# Altium schematic symbol library Arduino Nano Every Symbols.SchLib: 57 symbols
Pins are listed as number, name and electrical type; pins without a type are passive.

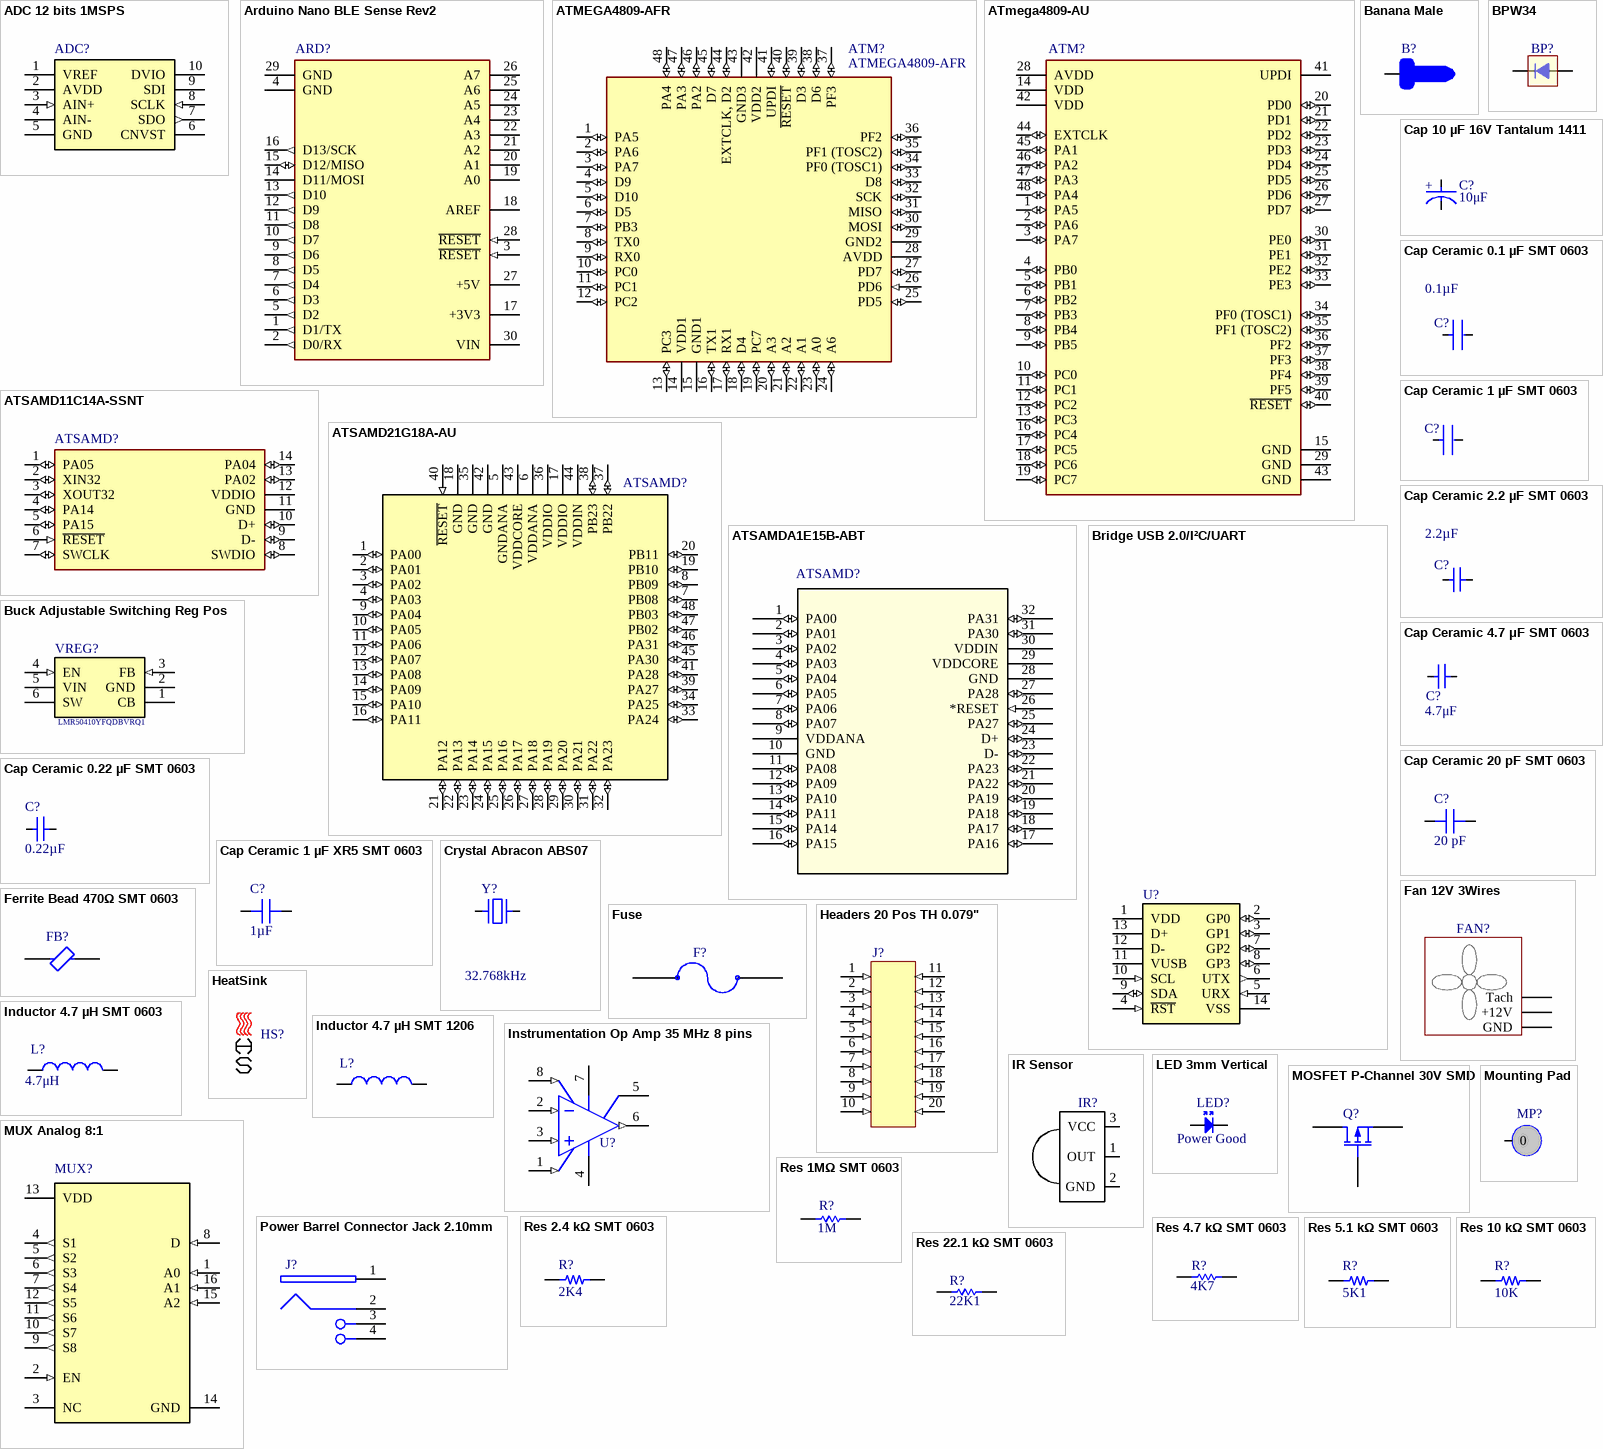
[diagram p0: symbols ADC 12 bits 1MSPS to Res 22.1 kΩ SMT 0603]

## ADC 12 bits 1MSPS
designator ADC?, comment MCP33141-10-E/MS  (value not drawn)
12 Bit Analog to Digital Converter 1 Input 1 SAR 10-MSOP; Supplier 1: Digi-Key; Supplier Part Number 1: MCP33141-10-E/MS-ND
footprint MCP33141-10-E/MS (12 Bit Analog to Digital Converter 1 Input 1 SAR 10-MSOP)
pins: 1 VREF (power), 2 AVDD (power), 3 AIN+ (in), 4 AIN-, 5 GND (power), 6 CNVST, 7 SDO (out), 8 SCLK (in), 9 SDI, 10 DVIO (power)

## Arduino Nano BLE Sense Rev2
designator ARD?
ABX00069, nRF52840 64MHz, 256 KB SRAM, 1MB flash, 14 I/O pins, 8 Analog inputs; Supplier 1: Digi-Key; Supplier Part Number 1: 1050-ABX00069-ND; ComponentLink1Description: Datasheet; ComponentLink1URL: https://docs.arduino.cc/static/65becb67a4b40fb616bb6af2730da4c7/ABX00069-datasheet.pdf; ComponentLink2Description: Pinout; ComponentLink2URL: https://docs.arduino.cc/static/9954a74bd83e85753daa710cb3e36c7d/ABX00069-full-pinout.pdf; ComponentLink3Description: Schematics; ComponentLink3URL: https://docs.arduino.cc/static/e36f3575dfede10661305c9971c3e7ed/ABX00069-schematics.pdf
footprint Arduino Nano BLE Sense Rev2 A (ABX00069, nRF52840 64MHz, 256 KB SRAM, 1MB flash, 14 I/O pins, 8 Analog inputs)
footprint Arduino Nano BLE Sense Rev2 B (ABX00069, nRF52840 64MHz, 256 KB SRAM, 1MB flash, 14 I/O pins, 8 Analog inputs)
pins: 1 D1/TX (out), 2 D0/RX (out), 3 ~{RESET} (in), 4 GND (power), 5 D2 (out), 6 D3 (out), 7 D4 (out), 8 D5 (out), 9 D6 (out), 10 D7 (out), 11 D8 (out), 12 D9 (out), 13 D10 (out), 14 D11/MOSI (hiz), 15 D12/MISO (io), 16 D13/SCK (out), 17 +3V3 (power), 18 AREF, 19 A0 (hiz), 20 A1 (hiz), 21 A2 (hiz), 22 A3 (hiz), 23 A4 (hiz), 24 A5 (hiz), 25 A6 (hiz), 26 A7 (hiz), 27 +5V (power), 28 ~{RESET} (in), 29 GND (power), 30 VIN (power)

## ATMEGA4809-AFR
designator ATM?
MICROCHIP - ATMEGA4809-AFR - MCU, 8BIT, ATMEGA, 20MHZ, TQFP-48; Geometry.Height: 1.2mm; Manufacturer_Name: Microchip; Manufacturer_Part_Number: ATMEGA4809-AFR; Mouser Part Number: 556-ATMEGA4809-AFR; Mouser Price/Stock: https://www.mouser.co.uk/ProductDetail/Microchip-Technology-Atmel/ATMEGA4809-AFR?qs=lYGu3FyN48fyX8GjkvcD6Q%3D%3D; Arrow Part Number: ATMEGA4809-AFR; Arrow Price/Stock: https://www.arrow.com/en/products/atmega4809-afr/microchip-technology?region=nac; Datasheet Link: https://datasheet.datasheetarchive.com/originals/distributors/DKDS41/DSANUWW0026740.pdf; Supplier 1: Digi-Key; Supplier Part Number 1: ATMEGA4809-AFRCT-ND; Supplier 2: Digi-Key; Supplier Part Number 2: ATMEGA4809-AFRDKR-ND
footprint ATmega4809-AF (CQFP, 32-Leads, Body 9,00x9,00mm, Pitch 0,80mm, IPC Medium Density)
pins: 1 PA5 (io), 2 PA6 (io), 3 PA7 (io), 4 D9 (io), 5 D10 (io), 6 D5 (io), 7 PB3 (io), 8 TX0 (io), 9 RX0 (io), 10 PC0 (io), 11 PC1 (io), 12 PC2 (io), 13 PC3 (io), 14 VDD1 (power), 15 GND1 (power), 16 TX1 (io), 17 RX1 (io), 18 D4 (io), 19 PC7 (io), 20 A3 (io), 21 A2 (io), 22 A1 (io), 23 A0 (io), 24 A6 (io), 25 PD5 (io), 26 PD6 (in), 27 PD7 (io), 28 AVDD (power), 29 GND2 (power), 30 MOSI (io), 31 MISO (io), 32 SCK (io), 33 D8 (io), 34 PF0 (TOSC1) (io), 35 PF1 (TOSC2) (io), 36 PF2 (io), 37 PF3 (io), 38 D6 (io), 39 D3 (io), 40 ~{RESET} (io), 41 UPDI (io), 42 VDD2 (power), 43 GND3 (power), 44 EXTCLK, D2 (io), 45 D7 (io), 46 PA2 (io), 47 PA3 (io), 48 PA4 (io)

## ATmega4809-AU
designator ATM?
MICROCHIP - ATMEGA4809-AFR - MCU, 8BIT, ATMEGA, 20MHZ, TQFP-48; Supplier 1: Digi-Key; Supplier Part Number 1: 150-ATMEGA4809-AU-ND; Supplier 2: Digi-Key; Supplier Part Number 2: 150-ATMEGA4809-AURCT-ND; Supplier 3: Digi-Key; Supplier Part Number 3: 150-ATMEGA4809-AURDKR-ND; Supplier 4: Digi-Key; Supplier Part Number 4: 150-ATMEGA4809-AURTR-ND
footprint ATmega4809-AU (MICROCHIP - ATMEGA4809-AFR - MCU, 8BIT, ATMEGA, 20MHZ, TQFP-48)
pins: 1 PA5 (io), 2 PA6 (io), 3 PA7 (io), 4 PB0 (io), 5 PB1 (io), 6 PB2 (io), 7 PB3 (io), 8 PB4 (io), 9 PB5 (io), 10 PC0 (io), 11 PC1 (io), 12 PC2 (io), 13 PC3 (io), 14 VDD (power), 15 GND (oe), 16 PC4 (io), 17 PC5 (io), 18 PC6 (io), 19 PC7 (io), 20 PD0 (io), 21 PD1 (io), 22 PD2 (io), 23 PD3 (io), 24 PD4 (io), 25 PD5 (io), 26 PD6 (io), 27 PD7 (io), 28 AVDD (power), 29 GND (power), 30 PE0 (io), 31 PE1 (io), 32 PE2 (io), 33 PE3 (io), 34 PF0 (TOSC1) (io), 35 PF1 (TOSC2) (io), 36 PF2 (io), 37 PF3 (io), 38 PF4 (io), 39 PF5 (io), 40 ~{RESET} (io), 41 UPDI, 42 VDD (power), 43 GND (power), 44 EXTCLK (io), 45 PA1 (io), 46 PA2 (io), 47 PA3 (io), 48 PA4 (io)

## ATSAMD11C14A-SSNT
designator ATSAMD?
ARM® Cortex®-M0+ SAM D11C Microcontroller IC 32-Bit Single-Core 48MHz 16KB (16K x 8) FLASH 14-SOIC; Supplier 1: Digi-Key; Supplier Part Number 1: ATSAMD11C14A-SSNTCT-ND; Supplier 2: Digi-Key; Supplier Part Number 2: ATSAMD11C14A-SSNTDKR-ND
pins: 1 PA05 (io), 2 XIN32 (io), 3 XOUT32 (io), 4 PA14 (io), 5 PA15 (io), 6 ~{RESET} (in), 7 SWCLK (io), 8 SWDIO (io), 9 D- (io), 10 D+ (io), 11 GND (power), 12 VDDIO (power), 13 PA02 (io), 14 PA04 (io)

## ATSAMD21G18A-AU
designator ATSAMD?
ARM® Cortex®-M0+ SAM D21G, Functional Safety (FuSa) Microcontroller IC 32-Bit Single-Core 48MHz 256KB (256K x 8) FLASH 48-TQFP (7x7); Supplier 1: Digi-Key; Supplier Part Number 1: ATSAMD21G18A-AU-ND; ComponentLink1Description: Datasheet; ComponentLink1URL: https://ww1.microchip.com/downloads/en/DeviceDoc/SAM-D21-DA1-Family-Data-Sheet-DS40001882H.pdf; ComponentLink2Description: Arduino Zero; ComponentLink2URL: https://docs.arduino.cc/hardware/zero
footprint ATSAMD21G18-AU (ARM® Cortex®-M0+ SAM D21G, Functional Safety (FuSa) Microcontroller IC 32-Bit Single-Core 48MHz 256KB (256K x 8) FLASH 48-TQFP (7x7))
pins: 1 PA00 (io), 2 PA01 (io), 3 PA02 (io), 4 PA03 (io), 5 GNDANA (power) "Ground for the analog power domain", 6 VDDANA (power) "Analog supply voltage", 7 PB08 (io), 8 PB09 (io), 9 PA04 (io), 10 PA05 (io), 11 PA06 (io), 12 PA07 (io), 13 PA08 (io), 14 PA09 (io), 15 PA10 (io), 16 PA11 (io), 17 VDDIO (power) "Digital supply voltage", 18 GND (power) "Ground", 19 PB10 (io), 20 PB11 (io), 21 PA12 (io), 22 PA13 (io), 23 PA14 (io), 24 PA15 (io), 25 PA16 (io), 26 PA17 (io), 27 PA18 (io), 28 PA19 (io), 29 PA20 (io), 30 PA21 (io), 31 PA22 (io), 32 PA23 (io), 33 PA24 (io), 34 PA25 (io), 35 GND (power) "Ground", 36 VDDIO (power) "Digital supply voltage", 37 PB22 (io), 38 PB23 (io), 39 PA27 (io), 40 ~{RESET} (in) "Reset pin", 41 PA28 (io), 42 GND (power) "Ground", 43 VDDCORE (power) "Core supply voltage / external decoupling pin", 44 VDDIN (power), 45 PA30 (io), 46 PA31 (io), 47 PB02 (io), 48 PB03 (io)

## ATSAMDA1E15B-ABT
designator ATSAMD?
ARM® Cortex®-M0+ SAM DA1, Functional Safety (FuSa) Microcontroller IC 32-Bit Single-Core 48MHz 32KB (32K x 8) FLASH 32-TQFP (7x7); Supplier 1: Digi-Key; Supplier Part Number 1: ATSAMDA1E15B-ABTCT-ND; Supplier 2: Digi-Key; Supplier Part Number 2: ATSAMDA1E15B-ABTDKR-ND
footprint ATSAMDA1E15B-ABT
pins: 1 PA00 (io), 2 PA01 (io), 3 PA02 (io), 4 PA03 (io), 5 PA04 (io), 6 PA05 (io), 7 PA06 (io), 8 PA07 (io), 9 VDDANA (power), 10 GND (power), 11 PA08 (io), 12 PA09 (io), 13 PA10 (io), 14 PA11 (io), 15 PA14 (io), 16 PA15 (io), 17 PA16 (io), 18 PA17 (io), 19 PA18 (io), 20 PA19 (io), 21 PA22 (io), 22 PA23 (io), 23 D- (io), 24 D+ (io), 25 PA27 (io), 26 *RESET (in), 27 PA28 (io), 28 GND (power), 29 VDDCORE (power), 30 VDDIN (power), 31 PA30 (io), 32 PA31 (io)

## Banana Male
designator B?
footprint Banane Male (Johnson 108-0753-001)
pins: 1

## BPW34
designator BP?
Photodiode
footprint BPW34 (BPW34 Trough Hole)
pins: 1, 2

## Bridge USB 2.0/I²C/UART
designator U?, comment MCP2221A-I/SL  (value not drawn)
USB Bridge, USB to I²C/UART USB 2.0 I²C, UART Interface 14-SOIC; USB Standard: USB 2.0; Max Supply Voltage: 5.5V; Supplier 1: Digi-Key; Supplier Part Number 1: MCP2221A-I/SL-ND
footprint MCP2221A-I/SL (USB Bridge, USB to I²C/UART USB 2.0 I²C, UART Interface 14-SOIC)
pins: 1 VDD (power), 2 GP0 (io), 3 GP1 (io), 4 ~{RST} (in), 5 URX (in), 6 UTX (out), 7 GP2 (io), 8 GP3 (io), 9 SDA (io), 10 SCL (in), 11 VUSB (power), 12 D- (power), 13 D+ (power), 14 VSS (power)
text: /

## Buck Adjustable Switching Reg Pos
designator VREG?, comment LMR50410YFQDBVRQ1
Buck Switching Regulator IC Positive Adjustable 1V 1 Output 1A SOT-23-6; Manufacturer_Name: Texas Instruments; Datasheet Link: https://www.ti.com/product/LMR50410-Q1; Height: 1.45mm; Manufacturer_Part_Number: LMR50410YFQDBVRQ1; Mouser Part Number: 595-MR50410YFQDBVRQ1; Mouser Price/Stock: https://www.mouser.co.uk/ProductDetail/Texas-Instruments/LMR50410YFQDBVRQ1?qs=81r%252BiQLm7BRUAgUFqYZycA%3D%3D; Arrow Part Number: LMR50410YFQDBVRQ1; Arrow Price/Stock: https://www.arrow.com/en/products/lmr50410yfqdbvrq1/texas-instruments?region=nac; Supplier 1: Digi-Key; Supplier Part Number 1: 296-LMR50410YFQDBVRQ1CT-ND; Supplier 2: Digi-Key; Supplier Part Number 2: 296-LMR50410YFQDBVRQ1DKR-ND; Supplier 3: Digi-Key; Supplier Part Number 3: 296-LMR50410YFQDBVRQ1TR-ND
footprint LMR50410YFQDBVRQ1 (Buck Switching Regulator IC Positive Adjustable 1V 1 Output 1A SOT-23-6)
pins: 1 CB (power), 2 GND (power), 3 FB (in), 4 EN (in), 5 VIN (power), 6 SW (power)

## Cap 10 µF 16V Tantalum 1411
designator C?, comment value 10μF  (hidden comment: 293D106X9016B2TE3)
10 µF Molded Tantalum Capacitors 16 V 1411 (3528 Metric) 2Ohm; Voltage Rating: 16V; Case Code (Imperial): 1411; Supplier 1: Digi-Key; Supplier Part Number 1: 718-1124-1-ND; Supplier 2: Digi-Key; Supplier Part Number 2: 718-1124-6-ND; Supplier 3: Digi-Key; Supplier Part Number 3: 718-1124-2-ND
footprint 293D106X9016B2TE3 (10 µF Molded Tantalum Capacitors 16 V 1411 (3528 Metric) 2Ohm)
pins: 1 C, 2 A
text: +

## Cap Ceramic 0.1 µF SMT 0603
designator C?, comment Capacitance: 0.1µF  (hidden comment: CC0603JRX7R9BB104)
0.1 µF ±5% 50V Ceramic Capacitor X7R 0603 (1608 Metric); manufacturer: Yageo; Part Number: CC0603JRX7R9BB104; Applications: General Purpose; componentlink1description: Datasheet; componentlink1url: https://www.yageo.com/upload/media/product/productsearch/datasheet/mlcc/UPY-GPHC_X7R_6.3V-to-50V_18.pdf; componentlink2description: DigiKey Link; componentlink2url: https://www.digikey.com/en/products/detail/yageo/CC0603JRX7R9BB104/5195188; Device Package: 0603 (1608 Metric); lastupdated: 2023-03-06 20:08:09; Lifecycle Status: Active; Minimum Order: 1; Mounting Type: Surface Mount, MLCC; Operating Temperature: -55°C ~ 125°C; Package / Case: 0603 (1608 Metric); packaging: TapeAndReel; partid: 12474; Part Status: Active; price: 0.01; series: CC; Size / Dimension: 0.063" L x 0.031" W (1.60mm x 0.80mm); Temperature Coefficient: X7R; Thickness (Max): 0.035" (0.90mm); Tolerance: ±5%; Voltage - Rated: 50V; Supplier 1: Digi-Key; Supplier Part Number 1: 311-1779-1-ND; Supplier 2: Digi-Key; Supplier Part Number 2: 311-1779-6-ND; Supplier 3: Digi-Key; Supplier Part Number 3: 311-1779-2-ND
footprint CC0603JRX7R9BB104 (0.1 µF ±5% 50V Ceramic Capacitor X7R 0603 (1608 Metric))
pins: 1, 2

## Cap Ceramic 0.22 µF SMT 0603
designator C?, comment value 0.22µF  (hidden comment: GRM188R71E224KA88D)
0.22 µF ±10% 25V Ceramic Capacitor X7R 0603 (1608 Metric); manufacturer: Murata Electronics; Part Number: GRM188R71E224KA88D; Applications: General Purpose; Capacitance: 0.22µF; componentlink1description: Datasheet; componentlink1url: https://www.murata.com/~/media/webrenewal/support/library/catalog/products/capacitor/mlcc/c02e.ashx?la=en-us; componentlink2description: DigiKey Link; componentlink2url: https://www.digikey.com/en/products/detail/murata-electronics/GRM188R71E224KA88D/702554; Device Package: 0603 (1608 Metric); lastupdated: 2023-03-05 20:08:17; Lifecycle Status: Active; Minimum Order: 1; Mounting Type: Surface Mount, MLCC; Operating Temperature: -55°C ~ 125°C; Package / Case: 0603 (1608 Metric); packaging: TapeAndReel; partid: 11196; Part Status: Active; price: 0.01; series: GRM; Size / Dimension: 0.063" L x 0.031" W (1.60mm x 0.80mm); Temperature Coefficient: X7R; Thickness (Max): 0.035" (0.90mm); Tolerance: ±10%; Voltage - Rated: 25V; Supplier 1: Digi-Key; Supplier Part Number 1: 490-3290-1-ND; Supplier 2: Digi-Key; Supplier Part Number 2: 490-3290-6-ND; Supplier 3: Digi-Key; Supplier Part Number 3: 490-3290-2-ND
footprint GRM188R71E224KA88D (0.22 µF ±10% 25V Ceramic Capacitor X7R 0603 (1608 Metric))
pins: 1, 2

## Cap Ceramic 1 µF SMT 0603
designator C?, comment CC0603KPX7R7BB105  (value not drawn)
1 µF ±10% 16V Ceramic Capacitor X7R 0603 (1608 Metric); Value: 1μF; Dielectric: XR7; Tolerance: 10%; Max Operating Temperature: 125°C; Case Code (Imperial): 0603; Voltage Rating (DC): 16V; Resistor Type: Ceramic; Height: 0.8mm; Length: 1.6mm; Construction: Flat; Termination: SMT/SMD; Min Operating Temperature: -55°C; Supplier 1: Digi-Key; Supplier Part Number 1: 13-CC0603KPX7R7BB105CT-ND; Supplier 2: Digi-Key; Supplier Part Number 2: 13-CC0603KPX7R7BB105DKR-ND; Supplier 3: Digi-Key; Supplier Part Number 3: 13-CC0603KPX7R7BB105TR-ND
footprint CC0603KPX7R7BB105 (1 µF ±10% 16V Ceramic Capacitor X7R 0603 (1608 Metric))
pins: 1, 2

## Cap Ceramic 1 µF XR5 SMT 0603
designator C?, comment value 1µF  (hidden comment: CC0603KRX5R7BB105)
1 µF ±10% 16V Ceramic Capacitor X5R 0603 (1608 Metric); manufacturer: Yageo; Capacitance: 1 µF; Part Number: CC0603KRX5R7BB105; Applications: General Purpose; componentlink1description: Datasheet; componentlink1url: https://www.yageo.com/upload/media/product/productsearch/datasheet/mlcc/UPY-GPHC_X5R_4V-to-50V_25.pdf; componentlink2description: DigiKey Link; componentlink2url: https://www.digikey.com/en/products/detail/yageo/CC0603KRX5R7BB105/2833609; Device Package: 0603 (1608 Metric); lastupdated: 2023-03-07 20:08:01; Lifecycle Status: Active; Minimum Order: 1; Mounting Type: Surface Mount, MLCC; Operating Temperature: -55°C ~ 85°C; Package / Case: 0603 (1608 Metric); packaging: TapeAndReel; partid: 12399; Part Status: Active; price: 0.01; series: CC; Size / Dimension: 0.063" L x 0.031" W (1.60mm x 0.80mm); Temperature Coefficient: X5R; Thickness (Max): 0.035" (0.90mm); Tolerance: ±10%; Voltage - Rated: 16V; Supplier 1: Digi-Key; Supplier Part Number 1: 311-1444-1-ND; Supplier 2: Digi-Key; Supplier Part Number 2: 311-1444-6-ND; Supplier 3: Digi-Key; Supplier Part Number 3: 311-1444-2-ND
footprint Cap Ceramic 1 uF XR5 SMT 0603 (1 µF ±10% 16V Ceramic Capacitor X5R 0603 (1608 Metric))
pins: 1, 2

## Cap Ceramic 2.2 µF SMT 0603
designator C?, comment Capacitance: 2.2µF  (hidden comment: CC0603KRX7R5BB225)
2.2 µF ±10% 6.3V Ceramic Capacitor X7R 0603 (1608 Metric); manufacturer: Yageo; Part Number: CC0603KRX7R5BB225; Applications: General Purpose; componentlink1description: Datasheet; componentlink1url: https://www.yageo.com/upload/media/product/productsearch/datasheet/mlcc/UPY-GPHC_X7R_6.3V-to-50V_18.pdf; componentlink2description: DigiKey Link; componentlink2url: https://www.digikey.com/en/products/detail/yageo/CC0603KRX7R5BB225/5195203; Device Package: 0603 (1608 Metric); lastupdated: 2023-03-06 20:08:32; Lifecycle Status: Active; Minimum Order: 1; Mounting Type: Surface Mount, MLCC; Operating Temperature: -55°C ~ 125°C; Package / Case: 0603 (1608 Metric); packaging: TapeAndReel; partid: 41539; Part Status: Active; price: 0.01; series: CC; Size / Dimension: 0.063" L x 0.031" W (1.60mm x 0.80mm); Temperature Coefficient: X7R; Thickness (Max): 0.035" (0.90mm); Tolerance: ±10%; Voltage - Rated: 6.3V; ComponentLink1Description: Datasheet; ComponentLink1URL: *; Supplier 1: Digi-Key; Supplier Part Number 1: 311-1795-1-ND; Supplier 2: Digi-Key; Supplier Part Number 2: 311-1795-6-ND; Supplier 3: Digi-Key; Supplier Part Number 3: 311-1795-2-ND
footprint CC0603KRX7R5BB225 (2.2 µF ±10% 6.3V Ceramic Capacitor X7R 0603 (1608 Metric))
pins: 1, 2

## Cap Ceramic 4.7 μF SMT 0603
designator C?, comment Capacitance: 4.7μF  (hidden comment: CC0603KRX5R7BB475)
4.7 µF ±10% 16V Ceramic Capacitor X5R 0603 (1608 Metric); manufacturer: Yageo; Part Number: CC0603KRX5R7BB475; Applications: General Purpose; componentlink1description: Datasheet; componentlink1url: https://www.yageo.com/upload/media/product/productsearch/datasheet/mlcc/UPY-GPHC_X5R_4V-to-50V_25.pdf; componentlink2description: DigiKey Link; componentlink2url: https://www.digikey.com/en/products/detail/yageo/CC0603KRX5R7BB475/5195193; Device Package: 0603 (1608 Metric); lastupdated: 2023-03-06 20:07:35; Lifecycle Status: Active; Minimum Order: 1; Mounting Type: Surface Mount, MLCC; Operating Temperature: -55°C ~ 85°C; Package / Case: 0603 (1608 Metric); packaging: TapeAndReel; partid: 46011; Part Status: Active; price: 0.02; series: CC; Size / Dimension: 0.063" L x 0.031" W (1.60mm x 0.80mm); Temperature Coefficient: X5R; Thickness (Max): 0.037" (0.95mm); Tolerance: ±10%; Voltage - Rated: 16V; Supplier 1: Digi-Key; Supplier Part Number 1: 311-1785-1-ND; Supplier 2: Digi-Key; Supplier Part Number 2: 311-1785-6-ND; Supplier 3: Digi-Key; Supplier Part Number 3: 311-1785-2-ND
footprint Cap Ceramic 4.7 uF SMT 0603 (4.7 µF ±10% 16V Ceramic Capacitor X5R 0603 (1608 Metric))
pins: 1, 2

## Cap Ceramic 20 pF SMT 0603
designator C?, comment value 20 pF  (hidden comment: CC0603JRNPO9BN200)
20 pF ±5% 50V Ceramic Capacitor C0G, NP0 0603 (1608 Metric); manufacturer: Yageo; Part Number: CC0603JRNPO9BN200; Applications: General Purpose; Capacitance: 20 pF; componentlink1description: Datasheet; componentlink1url: https://www.yageo.com/upload/media/product/productsearch/datasheet/mlcc/UPY-GP_NP0_16V-to-50V_17.pdf; componentlink2description: DigiKey Link; componentlink2url: https://www.digikey.com/en/products/detail/yageo/CC0603JRNPO9BN200/2833589; Device Package: 0603 (1608 Metric); lastupdated: 2023-03-06 20:07:50; Lifecycle Status: Active; Minimum Order: 1; Mounting Type: Surface Mount, MLCC; Operating Temperature: -55°C ~ 125°C; Package / Case: 0603 (1608 Metric); packaging: TapeAndReel; partid: 16728; Part Status: Active; price: 0.01; series: CC; Size / Dimension: 0.063" L x 0.031" W (1.60mm x 0.80mm); Temperature Coefficient: C0G, NP0; Thickness (Max): 0.035" (0.90mm); Tolerance: ±5%; Voltage - Rated: 50V; Supplier 1: Digi-Key; Supplier Part Number 1: 311-1424-1-ND; Supplier 2: Digi-Key; Supplier Part Number 2: 311-1424-6-ND; Supplier 3: Digi-Key; Supplier Part Number 3: 311-1424-2-ND
footprint Capacitor 20 pF SMT 0603
pins: 1, 2

## Crystal Abracon ABS07
designator Y?, comment value 32.768kHz  (hidden comment: ABS07-120-32.768KHZ-T)
32.768 kHz ±20ppm Crystal 6pF 55 kOhms 2-SMD, No Lead; Manufacturer: Abracon LLC; Operating Mode: Fundamental; Part Number: ABS07-120-32.768KHZ-T; ComponentLink1Description: Datasheet; ComponentLink1URL: https://abracon.com/Resonators/ABS07-120-32.768kHz-T.pdf; ComponentLink2Description: DigiKey Link; ComponentLink2URL: https://www.digikey.com/en/products/detail/abracon-llc/ABS07-120-32-768KHZ-T/3724043; ESR (Equivalent Series Resistance): 55 kOhms; Frequency Tolerance: ±20ppm; Height - Seated (Max): 0.035" (0.90mm); LastUpdated: 2023-03-06 20:57:22; Lifecycle Status: Active; Load Capacitance: 6pF; Minimum Order: 1; Mounting Type: Surface Mount; Operating Temperature: -40°C ~ 85°C; Package / Case: 2-SMD, No Lead; Packaging: TapeAndReel; PartId: 385; Part Status: Active; Price: 0.44; Series: ABS07; Size / Dimension: 0.126" L x 0.059" W (3.20mm x 1.50mm); Type: kHz Crystal (Tuning Fork); Supplier 1: Digi-Key; Supplier Part Number 1: 535-11937-1-ND; Supplier 2: Digi-Key; Supplier Part Number 2: 535-11937-6-ND; Supplier 3: Digi-Key; Supplier Part Number 3: 535-11937-2-ND; Frequency: 32.768 kHz
footprint ABS07-120-32.768KHZ-T A (32.768 kHz ±20ppm Crystal 6pF 55 kOhms 2-SMD, No Lead)
footprint ABS07-120-32.768KHZ-T B (32.768 kHz ±20ppm Crystal 6pF 55 kOhms 2-SMD, No Lead)
pins: 1, 2

## Fan 12V 3Wires
designator FAN?  (value not drawn)
footprint FAN 12V 3 WIRES + HS
pins: 1 GND (power), 2 +12V (power), 3 Tach

## Ferrite Bead 470Ω SMT 0603
designator FB?, comment BLM18PG471SN1D  (value not drawn)
470 Ω @ 100 MHz 1 Power Line Ferrite Bead 0603 (1608 Metric) 1A 200mOhm; Manufacturer: Murata Electronics; Impedance @ Frequency: 470 Ohms @ 100 MHz; Number of Lines: 1; Part Number: BLM18PG471SN1D; ComponentLink1Description: Datasheet; ComponentLink1URL: https://www.murata.com/en-us/products/productdata/8796738650142/ENFA0003.pdf; ComponentLink2Description: DigiKey Link; ComponentLink2URL: https://www.digikey.com/en/products/detail/murata-electronics/BLM18PG471SN1D/1948328; Current Rating (Max): 1A; DC Resistance (DCR) (Max): 200mOhm; Device Package: 0603 (1608 Metric); Filter Type: Power Line; Height (Max): 0.037" (0.95mm); LastUpdated: 2023-03-06 20:49:55; Lifecycle Status: Active; Minimum Order: 1; Mounting Type: Surface Mount; Operating Temperature: -55°C ~ 125°C; Package / Case: 0603 (1608 Metric); Packaging: TapeAndReel; PartId: 856; Part Status: Active; Price: 0.02; Series: EMIFIL®, BLM18; Size / Dimension: 0.063" L x 0.032" W (1.60mm x 0.80mm); Value: 470 Ω @ 100 MHz; Supplier 1: Digi-Key; Supplier Part Number 1: 490-5223-1-ND; Supplier 2: Digi-Key; Supplier Part Number 2: 490-5223-6-ND; Supplier 3: Digi-Key; Supplier Part Number 3: 490-5223-2-ND
footprint Ferrite Bead 470R SMT 0603 (470 Ohms @ 100 MHz 1 Power Line Ferrite Bead 0603 (1608 Metric) 1A 200mOhm)
pins: 1, 2

## Fuse
designator F?
Fuse
footprint Fuse Holder 3mm
pins: 1, 2

## Headers 20 Pos TH 0.079"
designator J?, comment BF050-20-A-B-0600-0300-L-G  (value not drawn)
Connector Header Through Hole 20 position 0.079" (2.00mm); Supplier 1: Digi-Key; Supplier Part Number 1: 2073-BF050-20-A-B-0600-0300-L-G-ND
footprint Headers 20 Pos TH 0.079" A (Connector Header Through Hole 20 position 0.079" (2.00mm))
footprint Headers 20 Pos TH 0.079" B (Connector Header Through Hole 20 position 0.079" (2.00mm))
pins: 1 (in), 2 (in), 3 (in), 4 (in), 5 (in), 6 (in), 7 (in), 8 (in), 9 (in), 10 (in), 11 (in), 12 (in), 13 (in), 14 (in), 15 (in), 16 (in), 17 (in), 18 (in), 19 (in), 20 (in)

## HeatSink
designator HS?  (value not drawn)
footprint FAN 12V 3 WIRES + HS
footprint HeatSink V8511W Assmann

## Inductor 4.7 µH SMT 0603
designator L?, comment value 4.7μH  (hidden comment: ILSB0603ER4R7K)
4.7 µH Shielded Multilayer Inductor 15 mA 2.1Ohm Max 0603 (1608 Metric); Tolerance: 10%; Core Material: Ferrite; Self Resonant Frequency: 41MHz; Case Code (Imperial): 1206; Min Operating Temperature: -55°C; Max Operating Temperature: 125°C; Width: 1.6mm; Depth: 1.8mm; Weight: 0.000353oz; ComponentLink1Description: Datasheet; ComponentLink1URL: https://www.vishay.com/docs/34029/ilsb1206.pdf; Supplier 1: Digi-Key; Supplier Part Number 1: 541-4369-1-ND; Supplier 2: Digi-Key; Supplier Part Number 2: 541-4369-6-ND
footprint Inductor 4.7 uH SMT 0603 (4.7 µH Shielded Multilayer Inductor 15 mA 2.1Ohm Max 0603 (1608 Metric))
pins: 1, 2

## Inductor 4.7 µH SMT 1206
designator L?, comment ILSB1206ER4R7K  (value not drawn)
4.7 µH Shielded Multilayer Inductor 50 mA 900mOhm Max 1206 (3216 Metric); Value: 4.7μH; Tolerance: 10%; Core Material: Ferrite; Self Resonant Frequency: 41MHz; Supplier 1: Digi-Key; Supplier Part Number 1: 541-4372-1-ND; Supplier 2: Digi-Key; Supplier Part Number 2: 541-4372-6-ND; Supplier 3: Digi-Key; Supplier Part Number 3: 541-4372-2-ND; Case Code (Imperial): 1206; Min Operating Temperature: -55°C; Max Operating Temperature: 125°C; Width: 1.6mm; Depth: 1.8mm; Weight: 0.000353oz; ComponentLink1Description: Datasheet; ComponentLink1URL: https://www.vishay.com/docs/34029/ilsb1206.pdf
footprint ILSB1206ER4R7K (4.7 µH Shielded Multilayer Inductor 50 mA 900mOhm Max 1206 (3216 Metric))
pins: 1, 2

## Instrumentation Op Amp 35 MHz 8 pins
designator U?, comment MCP6N11-100E/SN  (value not drawn)
Instrumentation Amplifier 1 Circuit Rail-to-Rail 8-SOIC; Supplier 1: Digi-Key; Supplier Part Number 1: MCP6N11-100E/SN-ND
footprint MCP6N11-100E/SN (Instrumentation Amplifier 1 Circuit Rail-to-Rail 8-SOIC)
pins: 1 VFG (in), 2 VIM (in), 3 VIP (in), 4 VSS (power), 5 VREF (power), 6 VOUT (out), 7 VDD (power), 8 EN/~{CAL} (in)

## IR Sensor
designator IR?, comment TSOP34338  (value not drawn)
IR Sensor
footprint TSOP (IR Sensor)
pins: 1 OUT, 2 GND, 3 VCC

## LED 3mm Vertical
designator LED?, comment Power Good
LED 3mm
footprint LED 3mm Vertical
pins: 1 A, 2 K

## MOSFET P-Channel 30V SMD
designator Q?, comment IRLML9303TRPBF  (value not drawn)
P-Channel 30 V 2.3A (Ta) 1.25W (Ta) Surface Mount Micro3™/SOT-23; Manufacturer: Infineon Technologies; Drain to Source Voltage (Vdss): 30 V; Drive Voltage (Max Rds On,  Min Rds On): 4.5V, 10V; Gate Charge (Qg) (Max) @ Vgs: 2 nC @ 4.5 V; Input Capacitance (Ciss) (Max) @ Vds: 160 pF @ 25 V; Rds On (Max) @ Id, Vgs: 165mOhm @ 2.3A, 10V; Vgs (Max): ±20V; Vgs(th) (Max) @ Id: 2.4V @ 10µA; Part Number: IRLML9303TRPBF; ComponentLink1Description: Datasheet; ComponentLink1URL: https://www.infineon.com/dgdl/irlml9303pbf.pdf?fileId=5546d462533600a401535668ef1d2642; ComponentLink2Description: DigiKey Link; ComponentLink2URL: https://www.digikey.com/en/products/detail/infineon-technologies/IRLML9303TRPBF/2354147; Current - Continuous Drain (Id) @ 25°C: 2.3A (Ta); FET Type: P-Channel; LastUpdated: 2023-03-05 21:05:43; Lifecycle Status: Active; Minimum Order: 1; Mounting Type: Surface Mount; Operating Temperature: -55°C ~ 150°C (TJ); Package / Case: TO-236-3, SC-59, SOT-23-3; Packaging: TapeAndReel; Part Status: Active; Power Dissipation (Max): 1.25W (Ta); Price: 0.11; Series: HEXFET®; Supplier Device Package: Micro3™/SOT-23; Technology: MOSFET (Metal Oxide); Supplier 1: Digi-Key; Supplier Part Number 1: IRLML9303TRPBFCT-ND; Supplier 2: Digi-Key; Supplier Part Number 2: IRLML9303TRPBFDKR-ND; Supplier 3: Digi-Key; Supplier Part Number 3: IRLML9303TRPBFTR-ND
footprint IRLML9303TRPBF (P-Channel 30 V 2.3A (Ta) 1.25W (Ta) Surface Mount Micro3™/SOT-23)
pins: 1 D, 2 G, 3 S

## Mounting Pad
designator MP?  (value not drawn)
footprint Mounting Hole
footprint Poteau Keystone 9082
pins: 0

## MUX Analog 8:1
designator MUX?, comment TMUX1208PWR  (value not drawn)
5-V, 8: 1, 1-channel general-purpose analog multiplexer with 1.8-V input logic 16-TSSOP -40 to 125; Supplier 1: Digi-Key; Supplier Part Number 1: 296-51847-1-ND; Supplier 2: Digi-Key; Supplier Part Number 2: 296-51847-6-ND; Supplier 3: Digi-Key; Supplier Part Number 3: 296-51847-2-ND; ComponentLink1Description: Datasheet; ComponentLink1URL: https://www.ti.com/lit/ds/symlink/tmux1208.pdf?HQS=dis-dk-null-digikeymode-dsf-pf-null-wwe&ts=1678139087624&ref_url=https%253A%252F%252Fwww.ti.com%252Fgeneral%252Fdocs%252Fsuppproductinfo.tsp%253FdistId%253D10%2526gotoUrl%253Dhttps%253A%252F%252Fwww.ti.com%252Flit%252Fgpn%252Ftmux1208
footprint TMUX1208PWR (1 Circuit IC Switch 8:1 3Ohm (Typ) 16-TSSOP)
pins: 1 A0 (in), 2 EN (in), 3 NC (hiz), 4 S1 (out), 5 S2 (out), 6 S3 (out), 7 S4 (out), 8 D (in), 9 S8 (out), 10 S7 (out), 11 S6 (out), 12 S5 (out), 13 VDD (power), 14 GND (power), 15 A2 (in), 16 A1 (in)

## Power Barrel Connector Jack 2.10mm
designator J?, comment PJ-063AH  (value not drawn)
Power Barrel Connector Jack 2.10mm ID (0.083"), 5.50mm OD (0.217") Through Hole, Right Angle; Current Rating: 8A; Shielding: Shielded; Voltage Rating: 24V; Insulation Resistance: 100MR; Number of Conductors: 2; Supplier 1: Digi-Key; Supplier Part Number 1: CP-063AH-ND; ComponentLink1Description: Datasheet; ComponentLink1URL: https://www.cuidevices.com/product/resource/pj-063ah.pdf; Max Operating Temperature: 85°C; Min Operating Temperature: -25°C; Contact Material: Copper; Contact Plating: Nickel; Flammability Rating: UL94 V-0
footprint PJ-063AH (Power Barrel Connector Jack 2.10mm ID (0.083"), 5.50mm OD (0.217") Through Hole, Right Angle)
pins: 1, 2, 3 SHLD, 4 SHLD

## Res 1MΩ SMT 0603
designator R?  Resistance: 1M
1 MΩ ±1% 0.1W, 1/10W Chip Resistor 0603 (1608 Metric) Automotive AEC-Q200, Moisture Resistant Thick Film; Part Number: AC0603FR-071ML; Manufacturer: Yageo; Temperature Coefficient: ±100ppm/°C; ComponentLink1Description: Datasheet; ComponentLink1URL: https://www.yageo.com/upload/media/product/productsearch/datasheet/rchip/PYu-AC_51_RoHS_L_7.pdf; ComponentLink2Description: DigiKey Link; ComponentLink2URL: https://www.digikey.com/en/products/detail/yageo/AC0603FR-071ML/2827820; Composition: Thick Film; Device Package: 0603 (1608 Metric); Features: Automotive AEC-Q200, Moisture Resistant; Height - Seated (Max): 0.022" (0.55mm); LastUpdated: 2023-03-06 20:28:19; Lifecycle Status: Active; Minimum Order: 1; Number of Terminations: 2; Operating Temperature: -55°C ~ 155°C; Package / Case: 0603 (1608 Metric); Packaging: CutTape; PartId: 17362; Part Status: Active; Power (Watts): 0.1W, 1/10W; Price: 0.01; Ratings: AEC-Q200; Series: AC; Size / Dimension: 0.063" L x 0.031" W (1.60mm x 0.80mm); Supplier Device Package: 0603; Tolerance: ±1%; Supplier 1: Digi-Key; Supplier Part Number 1: 311-1MLDCT-ND; Supplier 2: Digi-Key; Supplier Part Number 2: 311-1MLDDKR-ND; Supplier 3: Digi-Key; Supplier Part Number 3: 311-1MLDTR-ND
footprint AC0603FR-071ML (1 MOhms ±1% 0.1W, 1/10W Chip Resistor 0603 (1608 Metric) Automotive AEC-Q200, Moisture Resistant Thick Film)
pins: 1, 2

## Res 2.4 kΩ SMT 0603
designator R?, comment value 2K4  (hidden comment: AC0603FR-072K4L)
2.4 kOhms ±1% 0.1W, 1/10W Chip Resistor 0603 (1608 Metric) Automotive AEC-Q200, Moisture Resistant Thick Film; Manufacturer: Yageo; Temperature Coefficient: ±100ppm/°C; Part Number: AC0603FR-072K4L; ComponentLink1Description: Datasheet; ComponentLink1URL: https://www.yageo.com/upload/media/product/productsearch/datasheet/rchip/PYu-AC_51_RoHS_L_7.pdf; ComponentLink2Description: DigiKey Link; ComponentLink2URL: https://www.digikey.com/en/products/detail/yageo/AC0603FR-072K4L/5895989; Composition: Thick Film; Device Package: 0603 (1608 Metric); Features: Automotive AEC-Q200, Moisture Resistant; Height - Seated (Max): 0.022" (0.55mm); LastUpdated: 2023-03-07 20:28:01; Lifecycle Status: Active; Minimum Order: 1; Number of Terminations: 2; Operating Temperature: -55°C ~ 155°C; Package / Case: 0603 (1608 Metric); Packaging: CutTape; PartId: 22004; Part Status: Active; Power (Watts): 0.1W, 1/10W; Price: 0.01; Ratings: AEC-Q200; Resistance: 2K4; Series: AC; Size / Dimension: 0.063" L x 0.031" W (1.60mm x 0.80mm); Supplier Device Package: 0603; Tolerance: ±1%; Supplier 1: Digi-Key; Supplier Part Number 1: YAG5724CT-ND; Supplier 2: Digi-Key; Supplier Part Number 2: YAG5724DKR-ND; Supplier 3: Digi-Key; Supplier Part Number 3: YAG5724TR-ND
footprint Res 2K4 SMT 0603 (2.4 kOhms ±1% 0.1W, 1/10W Chip Resistor 0603 (1608 Metric) Automotive AEC-Q200, Moisture Resistant Thick Film)
pins: 1, 2

## Res 4.7 kΩ SMT 0603
designator R?, comment Resistance: 4K7  (hidden comment: AC0603FR-074K7L)
4.7 kΩ ±1% 0.1W, 1/10W Chip Resistor 0603 (1608 Metric) Automotive AEC-Q200, Moisture Resistant Thick Film; Temperature Coefficient: 100ppm/°C; Max Power Dissipation: 100mW; Voltage Rating: 50V; Min Operating Temperature: -55°C; Width: 0.031inch; Features: Moisture Resistant; Case/Package: 0603; Number of Terminations: 2; Height: 0.022inch; Case Code (Imperial): 0603; Construction: Rectangular; Length: 0.063inch; Termination: SMD/SMT; Tolerance: 1%; Military Standard: Not; Case Code (Metric): 1608; Lead Free: Lead Free; Depth: 0.8mm; Max Operating Temperature: 155°C; Size Code: 0603; RoHS Compliant: Yes; Series: AC; Resistor Type: Thick Film; Ratings: AEC-Q200; Packaging: Tape and Reel; Power Rating: 100mW
footprint AC0603FR-074K7L (RES 4.7KO 1.00% 0.1W 0603)
pins: 1, 2

## Res 5.1 kΩ SMT 0603
designator R?, comment value 5K1  (hidden comment: AC0603FR-075K1L)
5.1 kOhms ±1% 0.1W, 1/10W Chip Resistor 0603 (1608 Metric) Automotive AEC-Q200, Moisture Resistant Thick Film; Manufacturer: Yageo; Temperature Coefficient: ±100ppm/°C; Part Number: AC0603FR-075K1L; ComponentLink1Description: Datasheet; ComponentLink1URL: https://www.yageo.com/upload/media/product/productsearch/datasheet/rchip/PYu-AC_51_RoHS_L_7.pdf; ComponentLink2Description: DigiKey Link; ComponentLink2URL: https://www.digikey.com/en/products/detail/yageo/AC0603FR-075K1L/5896209; Composition: Thick Film; Device Package: 0603 (1608 Metric); Features: Automotive AEC-Q200, Moisture Resistant; Height - Seated (Max): 0.022" (0.55mm); LastUpdated: 2023-03-07 20:28:19; Lifecycle Status: Active; Minimum Order: 1; Number of Terminations: 2; Operating Temperature: -55°C ~ 155°C; Package / Case: 0603 (1608 Metric); Packaging: CutTape; PartId: 17442; Part Status: Active; Power (Watts): 0.1W, 1/10W; Price: 0.01; Ratings: AEC-Q200; Resistance: 5K1; Series: AC; Size / Dimension: 0.063" L x 0.031" W (1.60mm x 0.80mm); Supplier Device Package: 0603; Tolerance: ±1%; Supplier 1: Digi-Key; Supplier Part Number 1: YAG3621CT-ND; Supplier 2: Digi-Key; Supplier Part Number 2: YAG3621DKR-ND; Supplier 3: Digi-Key; Supplier Part Number 3: YAG3621TR-ND
footprint Res 5K1 SMT 0603 (5.1 kOhms ±1% 0.1W, 1/10W Chip Resistor 0603 (1608 Metric) Automotive AEC-Q200, Moisture Resistant Thick Film)
pins: 1, 2

## Res 10 kΩ SMT 0603
designator R?, comment value 10K  (hidden comment: RT0603BRD0710KL)
10 kΩ  ±0.1% 0.1W, 1/10W Chip Resistor 0603 (1608 Metric) Thin Film; Manufacturer: Yageo; Temperature Coefficient: ±25ppm/°C; Part Number: RT0603BRD0710KL; ComponentLink1Description: Datasheet; ComponentLink1URL: https://www.yageo.com/upload/media/product/productsearch/datasheet/rchip/PYu-RT_1-to-0.01_RoHS_L_11.pdf; ComponentLink2Description: DigiKey Link; ComponentLink2URL: https://www.digikey.com/en/products/detail/yageo/RT0603BRD0710KL/1072198; Composition: Thin Film; Device Package: 0603 (1608 Metric); Height - Seated (Max): 0.022" (0.55mm); LastUpdated: 2023-03-06 20:27:57; Lifecycle Status: Active; Minimum Order: 1; Number of Terminations: 2; Operating Temperature: -55°C ~ 155°C; Package / Case: 0603 (1608 Metric); Packaging: TapeAndReel; PartId: 22611; Part Status: Active; Power (Watts): 0.1W, 1/10W; Price: 0.03; Resistance: 10K; Series: RT; Size / Dimension: 0.063" L x 0.031" W (1.60mm x 0.80mm); Supplier Device Package: 0603; Tolerance: ±0.1%; Supplier 1: Digi-Key; Supplier Part Number 1: YAG1236CT-ND; Supplier 2: Digi-Key; Supplier Part Number 2: YAG1236DKR-ND; Supplier 3: Digi-Key; Supplier Part Number 3: YAG1236TR-ND
footprint RT0603BRD0710KL (10 kOhms ±0.1% 0.1W, 1/10W Chip Resistor 0603 (1608 Metric) Thin Film)
pins: 1, 2

## Res 22.1 kΩ SMT 0603
designator R?, comment Resistance: 22K1  (hidden comment: CRCW060322K1FKEA)
22.1 kΩ ±1% 0.1W, 1/10W Chip Resistor 0603 (1608 Metric) Automotive AEC-Q200 Thick Film; Manufacturer: Vishay Dale; Temperature Coefficient: ±100ppm/°C; Part Number: CRCW060322K1FKEA; ComponentLink1Description: Datasheet; ComponentLink1URL: http://www.vishay.com/docs/20035/dcrcwe3.pdf; ComponentLink2Description: DigiKey Link; ComponentLink2URL: https://www.digikey.com/en/products/detail/vishay-dale/CRCW060322K1FKEA/1174819; Composition: Thick Film; Device Package: 0603 (1608 Metric); Features: Automotive AEC-Q200; Height - Seated (Max): 0.020" (0.50mm); LastUpdated: 2023-03-06 20:28:36; Lifecycle Status: Active; Minimum Order: 1; Number of Terminations: 2; Operating Temperature: -55°C ~ 155°C; Package / Case: 0603 (1608 Metric); Packaging: TapeAndReel; PartId: 12700; Part Status: Active; Power (Watts): 0.1W, 1/10W; Price: 0.01; Ratings: AEC-Q200; Series: CRCW; Size / Dimension: 0.061" L x 0.033" W (1.55mm x 0.85mm); Supplier Device Package: 0603; Tolerance: ±1%; Supplier 1: Digi-Key; Supplier Part Number 1: 541-221KHCT-ND; Supplier 2: Digi-Key; Supplier Part Number 2: 541-221KHDKR-ND; Supplier 3: Digi-Key; Supplier Part Number 3: 541-221KHTR-ND
footprint CRCW060322K1FKEA (Res Thick Film 0603 22.1K Ohm 1% 1/10W ±100ppm/°C Molded SMD SMD Paper T/R)
pins: 1, 2

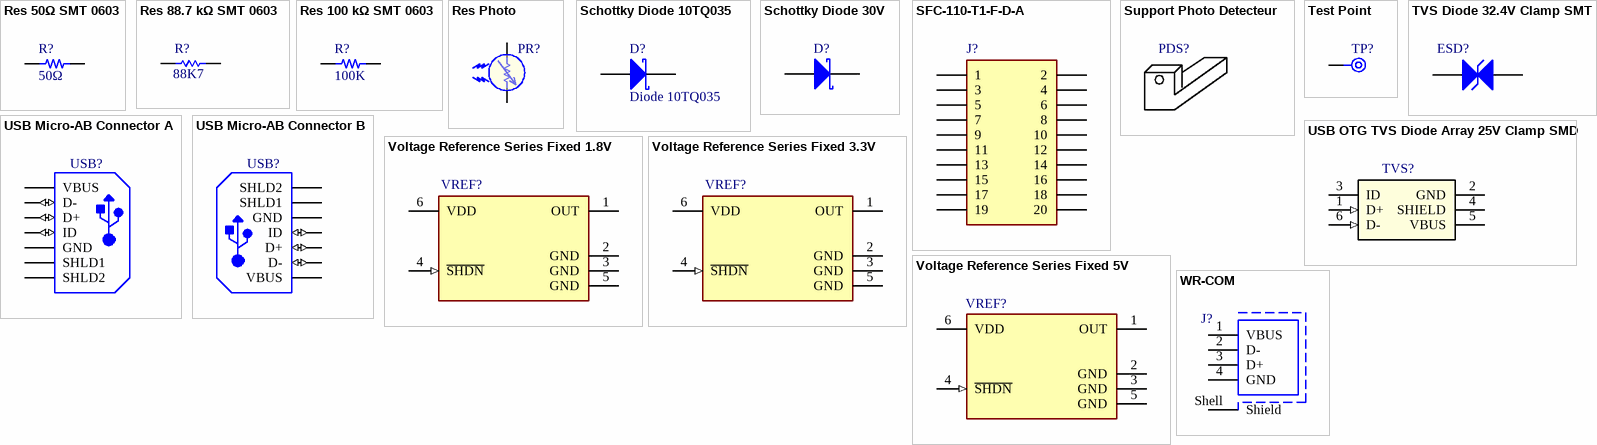
[diagram p1: symbols Res 50Ω SMT 0603 to WR-COM]

## Res 50Ω SMT 0603
designator R?, comment value 50Ω  (hidden comment: CRCW060350R0FKEA)
50Ω ±1% 0.1W, 1/10W Chip Resistor 0603 (1608 Metric) Automotive AEC-Q200 Thick Film; Manufacturer: Vishay Dale; Temperature Coefficient: ±100ppm/°C; Part Number: CRCW060350R0FKEA; ComponentLink1Description: Datasheet; ComponentLink1URL: http://www.vishay.com/docs/20035/dcrcwe3.pdf; ComponentLink2Description: DigiKey Link; ComponentLink2URL: http://digikey.com/product-detail/en/vishay-dale/CRCW060350R0FKEA/541-3318-1-ND/6684924; Composition: Thick Film; Device Package: 0603 (1608 Metric); Features: Automotive AEC-Q200; Height - Seated (Max): 0.020" (0.50mm); LastUpdated: 2023-03-07 20:27:49; Lifecycle Status: Active; Minimum Order: 1; Number of Terminations: 2; Operating Temperature: -55°C ~ 155°C; Package / Case: 0603 (1608 Metric); Packaging: CutTape; PartId: 23780; Part Status: Active; Power (Watts): 0.1W, 1/10W; Price: 0.10; Ratings: AEC-Q200; Resistance: 50Ω; Series: CRCW; Size / Dimension: 0.061" L x 0.033" W (1.55mm x 0.85mm); Supplier Device Package: 0603; Tolerance: ±1%; Supplier 1: Mouser; Supplier Part Number 1: 71-CRCW0603-50-E3
footprint Res 50R SMT 0603 (50O ±1% 0.1W, 1/10W Chip Resistor 0603 (1608 Metric) Automotive AEC-Q200 Thick Film)
pins: 1, 2

## Res 88.7 kΩ SMT 0603
designator R?, comment Resistance: 88K7  (hidden comment: CRCW060388K7FKEB)
88.7 kΩ ±1% 0.1W, 1/10W Chip Resistor 0603 (1608 Metric) Automotive AEC-Q200 Thick Film; Manufacturer: Vishay Dale; Temperature Coefficient: ±100ppm/°C; Part Number: CRCW060388K7FKEB; ComponentLink1Description: Datasheet; ComponentLink1URL: http://www.vishay.com/docs/20035/dcrcwe3.pdf; ComponentLink2Description: DigiKey Link; ComponentLink2URL: https://www.digikey.com/en/products/detail/vishay-dale/CRCW060388K7FKEB/5073407; Composition: Thick Film; Device Package: 0603 (1608 Metric); Features: Automotive AEC-Q200; Height - Seated (Max): 0.020" (0.50mm); LastUpdated: 2023-03-06 20:27:22; Lifecycle Status: Active; Minimum Order: 1; Number of Terminations: 2; Operating Temperature: -55°C ~ 155°C; Package / Case: 0603 (1608 Metric); Packaging: CutTape; PartId: 56612; Part Status: Active; Power (Watts): 0.1W, 1/10W; Price: 0.01; Ratings: AEC-Q200; Series: CRCW; Size / Dimension: 0.063" L x 0.033" W (1.60mm x 0.85mm); Supplier Device Package: 0603; Tolerance: ±1%; Supplier 1: Digi-Key; Supplier Part Number 1: 541-CRCW060388K7FKEBCT-ND; Supplier 2: Digi-Key; Supplier Part Number 2: 541-CRCW060388K7FKEBDKR-ND
footprint CRCW060388K7FKEB (88.7 kOhms ±1% 0.1W, 1/10W Chip Resistor 0603 (1608 Metric) Automotive AEC-Q200 Thick Film)
pins: 1, 2

## Res 100 kΩ SMT 0603
designator R?, comment value 100K  (hidden comment: AC0603FR-07100KL)
100 kΩ ±1% 0.1W, 1/10W Chip Resistor 0603 (1608 Metric) Automotive AEC-Q200, Moisture Resistant Thick Film; Manufacturer: Yageo; Temperature Coefficient: ±100ppm/°C; Part Number: AC0603FR-07100KL; ComponentLink1Description: Datasheet; ComponentLink1URL: https://www.yageo.com/upload/media/product/productsearch/datasheet/rchip/PYu-AC_51_RoHS_L_7.pdf; ComponentLink2Description: DigiKey Link; ComponentLink2URL: https://www.digikey.com/en/products/detail/yageo/AC0603FR-07100KL/2827813; Composition: Thick Film; Device Package: 0603 (1608 Metric); Features: Automotive AEC-Q200, Moisture Resistant; Height - Seated (Max): 0.022" (0.55mm); LastUpdated: 2023-03-06 20:28:19; Lifecycle Status: Active; Minimum Order: 1; Number of Terminations: 2; Operating Temperature: -55°C ~ 155°C; Package / Case: 0603 (1608 Metric); Packaging: CutTape; PartId: 17350; Part Status: Active; Power (Watts): 0.1W, 1/10W; Price: 0.01; Ratings: AEC-Q200; Resistance: 100K; Series: AC; Size / Dimension: 0.063" L x 0.031" W (1.60mm x 0.80mm); Supplier Device Package: 0603; Tolerance: ±1%; Supplier 1: Digi-Key; Supplier Part Number 1: 311-100KLDCT-ND; Supplier 2: Digi-Key; Supplier Part Number 2: 311-100KLDDKR-ND; Supplier 3: Digi-Key; Supplier Part Number 3: 311-100KLDTR-ND
footprint AC0603FR-07100KL (100 kOhms ±1% 0.1W, 1/10W Chip Resistor 0603 (1608 Metric) Automotive AEC-Q200, Moisture Resistant Thick Film)
pins: 1, 2

## Res Photo
designator PR?
Photo Cell
footprint Res Photo
pins: 1, 2

## Schottky Diode 10TQ035
designator D?, comment Diode 10TQ035
Schottky Rectifier; Note: Terminal 2 is the TAB and is electrically connected to the cathode; Published: 8-Jun-2000; LatestRevisionDate: 17-Jul-2002; LatestRevisionNote: Re-released for DXP Platform.; DatasheetVersion: PD-2.057B; PackageVersion: Feb-1998; PackageReference: TO-220AC; Publisher: Altium Limited; PackageDescription: TO, Thru-Hole, Vertical, Heatsink Mounted; 3 In-Line Leads (1 Absent); Pitch 2.54 mm; ComponentLink1Description: Manufacturer Link; ComponentLink1URL: http://www.irf.com/; ComponentLink2Description: Datasheet; ComponentLink2URL: http://www.irf.com/product-info/datasheets/data/10tq.pdf
footprint TO-220AC (TO, Thru-Hole, Vertical, Heatsink Mounted; 3 In-Line Leads (1 Absent); Pitch 2.54 mm)
simulation model 10TQ035 (DIODE)
pins: 1 K, 3 A

## Schottky Diode 30V
designator D?, comment NSR0530HT1G  (value not drawn)
Schottky Diode 30 V 500mA Surface Mount SOD-323; Manufacturer: ON Semiconductor; Capacitance @ Vr, F: 10pF @ 1V, 1MHz; Current - Average Rectified (Io): 500mA (DC); Current - Reverse Leakage @ Vr: 200µA @ 30V; Speed: Fast Recovery =< 500ns, > 200mA (Io); Voltage - DC Reverse (Vr) (Max): 30V; Voltage - Forward (Vf) (Max) @ If: 620mV @ 500mA; Part Number: NSR0530HT1G; ComponentLink1Description: Datasheet; ComponentLink1URL: http://www.onsemi.com/pub/Collateral/NSR0530H-D.PDF; ComponentLink2Description: DigiKey Link; ComponentLink2URL: http://digikey.com/product-detail/en/on-semiconductor/NSR0530HT1G/NSR0530HT1GOSCT-ND/5761654; Diode Type: Schottky; LastUpdated: 2023-03-06 21:08:52; Lifecycle Status: Active; Minimum Order: 1; Mounting Type: Surface Mount; Operating Temperature - Junction: -55°C ~ 150°C; Package / Case: SC-76, SOD-323; Packaging: TapeAndReel; PartId: 3077; Part Status: Active; Price: 0.03; Series: -; Supplier Device Package: SOD-323; Supplier 1: Digi-Key; Supplier Part Number 1: NSR0530HT1GOSCT-ND; Supplier 2: Digi-Key; Supplier Part Number 2: NSR0530HT1GOSDKR-ND; Supplier 3: Digi-Key; Supplier Part Number 3: NSR0530HT1GOSTR-ND
footprint Schottky Diode 30V SMT (NSR0530HT1G)
pins: 1 K, 3 A

## SFC-110-T1-F-D-A
designator J?
Headers & Wire Housings .050 Tiger Eye Cost-Effective Reliable Socket Strip; Pitch: 0.05inch; Number of Contacts: 20; Voltage Rating (AC): 350V; Max Operating Temperature: 125°C; Min Operating Temperature: -55°C; Insulation Material: Polymer; Contact Finish - Mating: Gold; Contact Material: Bronze; Contact Plating: Gold; Row Spacing: 0.05inch; RoHS Compliant: Yes; Fastening Type: Pull; Termination: Solder; Supplier Part Number 1: SAM12821-ND; Supplier 1: Digi-Key
footprint SFC-110-T1-F-D-A (Headers & Wire Housings .050 Tiger Eye Cost-Effective Reliable Socket Strip)
footprint SFC-110-T1-F-D-A-2 (Headers & Wire Housings .050 Tiger Eye Cost-Effective Reliable Socket Strip)
pins: 1, 2, 3, 4, 5, 6, 7, 8, 9, 10, 11, 12, 13, 14, 15, 16, 17, 18, 19, 20

## Support Photo Detecteur
designator PDS?
Support Photo Detecteur
footprint Support Photo Detecteur D2

## Test Point
designator TP?
Test Point
footprint SQ Pad (Pad)
footprint Test Point Loop
footprint Test Point Loop +18AWG (Test Point Loop)
pins: 1 TP

## TVS Diode 32.4V Clamp SMT
designator ESD?, comment SMBJ20CA  (value not drawn)
32.4V Clamp 18.6A Ipp Tvs Diode Surface Mount SMB (DO-214AA); Max Power Dissipation: 600W; Diode Type: Zener; Element Configuration: Single; Reverse Standoff Voltage: 20V; Direction: Bidirectional; Max Breakdown Voltage: 25.5V; Min Breakdown Voltage: 22.2V; Max Surge Current: 100A; Peak Pulse Current: 18.6A; ComponentLink1Description: Datasheet; ComponentLink1URL: https://www.bourns.com/docs/Product-Datasheets/SMBJ.pdf; Supplier 1: Digi-Key; Supplier Part Number 1: SMBJ20CABCT-ND; Supplier 2: Digi-Key; Supplier Part Number 2: SMBJ20CABDKR-ND
footprint SMBJ20CA (32.4V Clamp 18.6A Ipp Tvs Diode Surface Mount SMB (DO-214AA))
pins: 1, 2

## USB Micro-AB Connector A
designator USB?, comment USB3106-30-0230-A  (value not drawn)
USB - Micro AB 2.0 Receptacle Connector 5 Position, Vertical, Through Hole with 2.30 mm (Standard) Shell Stakes, 5-Pin THD, RoHS, Tape and Reel; Supplier 1: Newark; Supplier Part Number 1: 18X0232
footprint USB3106-30-0230-A (USB - Micro AB 2.0 Receptacle Connector 5 Position, Vertical, Through Hole with 2.30 mm (Standard) Shell Stakes, 5-Pin THD, RoHS, Tape and Reel)
pins: 1 VBUS (power), 2 D- (io), 3 D+ (io), 4 ID (io), 5 GND (power), 6 SHLD1 (power), 7 SHLD2 (power)

## USB Micro-AB Connector B
designator USB?, comment USB3106-30-0230-A  (value not drawn)
USB - Micro AB 2.0 Receptacle Connector 5 Position, Vertical, Through Hole with 2.30 mm (Standard) Shell Stakes, 5-Pin THD, RoHS, Tape and Reel; Supplier 1: Newark; Supplier Part Number 1: 18X0232
footprint USB3106-30-0230-A (USB - Micro AB 2.0 Receptacle Connector 5 Position, Vertical, Through Hole with 2.30 mm (Standard) Shell Stakes, 5-Pin THD, RoHS, Tape and Reel)
pins: 1 VBUS (power), 2 D- (io), 3 D+ (io), 4 ID (io), 5 GND (power), 6 SHLD1 (power), 7 SHLD2 (power)

## USB OTG TVS Diode Array 25V Clamp SMD
designator TVS?, comment RCLAMP0504FA.TCT  (value not drawn)
25V Clamp 6A (8/20µs) Ipp Tvs Diode Surface Mount SC-70-6; Supplier 1: Digi-Key; Supplier Part Number 1: RCLAMP0504FATCTCT-ND; Supplier 2: Digi-Key; Supplier Part Number 2: RCLAMP0504FATCTDKR-ND; Supplier 3: Digi-Key; Supplier Part Number 3: RCLAMP0504FATCTTR-ND
footprint RCLAMP0504FA.TCT
pins: 1 D+ (in), 2 GND (power), 3 ID, 4 SHIELD (power), 5 VBUS (power), 6 D- (in)

## Voltage Reference Series Fixed 1.8V
designator VREF?, comment MCP1501T-18E/CHY  (value not drawn)
Series Voltage Reference IC Fixed 1.8V V ±0.1% 20 mA SOT-23-6; Temperature Coefficient: 50ppm/°C; Output Current: 20mA; Tolerance: 0.08%; Operating Supply Current: 550μA; ComponentLink1Description: Datasheet; ComponentLink1URL: https://ww1.microchip.com/downloads/aemDocuments/documents/MSLD/ProductDocuments/DataSheets/MCP1501-Data-Sheet-DS20005474F.pdf; Reference Type: Series; Case/Package: SOT-23-6; Output Type: Fixed; Min Output Voltage: 1.8V; Min Operating Temperature: -40°C; Max Operating Temperature: 125°C; Supplier 1: Digi-Key; Supplier Part Number 1: MCP1501T-18E/CHYCT-ND; Supplier 2: Digi-Key; Supplier Part Number 2: MCP1501T-18E/CHYDKR-ND
footprint MCP1501T-XXE/CHY (Series Voltage Reference IC Fixed V ±0.1% 20 mA SOT-23-6)
pins: 1 OUT (power), 2 GND (power), 3 GND (power), 4 ~{SHDN} (in), 5 GND (power), 6 VDD (power)

## Voltage Reference Series Fixed 3.3V
designator VREF?, comment MCP1501T-33E/CHY  (value not drawn)
Series Voltage Reference IC Fixed 3.3V V ±0.1% 20 mA SOT-23-6; Temperature Coefficient: 50ppm/°C; Output Current: 20mA; Tolerance: 0.08%; Operating Supply Current: 550μA; ComponentLink1Description: Datasheet; ComponentLink1URL: https://ww1.microchip.com/downloads/aemDocuments/documents/MSLD/ProductDocuments/DataSheets/MCP1501-Data-Sheet-DS20005474F.pdf; Reference Type: Series; Case/Package: SOT-23-6; Output Type: Fixed; Min Output Voltage: 3.3V; Min Operating Temperature: -40°C; Max Operating Temperature: 125°C; Supplier 1: Digi-Key; Supplier Part Number 1: MCP1501T-33E/CHYCT-ND; Supplier 2: Digi-Key; Supplier Part Number 2: MCP1501T-33E/CHYDKR-ND; Supplier 3: Digi-Key; Supplier Part Number 3: MCP1501T-33E/CHYTR-ND
footprint MCP1501T-XXE/CHY (Series Voltage Reference IC Fixed V ±0.1% 20 mA SOT-23-6)
pins: 1 OUT (power), 2 GND (power), 3 GND (power), 4 ~{SHDN} (in), 5 GND (power), 6 VDD (power)

## Voltage Reference Series Fixed 5V
designator VREF?, comment MCP1501T-50E/CHY  (value not drawn)
Series Voltage Reference IC Fixed 5V V ±0.1% 20 mA SOT-23-6; Supplier 1: Digi-Key; Supplier Part Number 1: 150-MCP1501T-50E/CHYCT-ND; Supplier 2: Digi-Key; Supplier Part Number 2: 150-MCP1501T-50E/CHYDKR-ND; Supplier 3: Digi-Key; Supplier Part Number 3: 150-MCP1501T-50E/CHYTR-ND
footprint MCP1501T-XXE/CHY (Series Voltage Reference IC Fixed V ±0.1% 20 mA SOT-23-6)
pins: 1 OUT (power), 2 GND (power), 3 GND (power), 4 ~{SHDN} (in), 5 GND (power), 6 VDD (power)

## WR-COM
designator J?
Straight PCB Mount Mount Female Type B USB Connector; 30 V ac; 1.5A; Manufacturer Part Number: 61400413321; Supplier 1: Digi-Key; Supplier Part Number 1: 732-2734-ND
footprint WR-COM (USB 2.0 Type B Receptacle WR-COM, Vertical, THT)
pins: 1 VBUS, 2 D-, 3 D+, 4 GND, Shell Shield